# EAGLE library part 00SPEEDY_EE25/13/11_THT_V_8PIN (library Wurth Electronics Midcom Inc V1-0)
Package Style: Speedy EE25/13/11 Mounting: THT Pins: 8 pins Bobbin: 070-5080 Best pinouts for production vary per application. Please contact Wurth Electronics Midcom, Inc. for assistance with your custom design. Website: Wurth Electronics Midcom <http://www.we-online.com/midcom> Contact us Wurth Electronics Midcom, Inc. 121 Airport Dr. Watertown, SD 57201 Phone: (605) 886-4385 Fax: (605) 886-4486 E-Mail: midcom@we-online.com
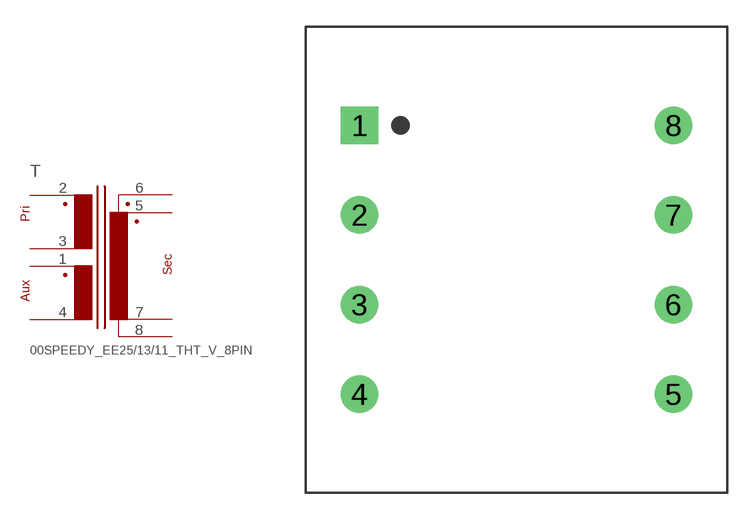
[diagram p109: symbol with the pads of 00SPEEDY_EE25/13/11_THT_V_8PIN; footprint 00SPEEDY_EE25/13/11_THT_V_8PIN]

Designator prefix T

## 00SPEEDY_EE25/13/11_THT_V_8PIN  [00SPEEDY_EE25/13/11_THT_V_8PIN]
1  3  pas
2  1  pas
3  2  pas
4  4  pas
5  7  pas
6  5  pas
7  8  pas
8  6  pas

## Footprint 00SPEEDY_EE25/13/11_THT_V_8PIN (pad centres in mm)
Package Style: Speedy EE25/13/11 Mounting: THT Pins: 8 pins Bobbin: 070-5080
drill 1.397 square: 1 -8.75,7.506
drill 1.397 round: 2 -8.75,2.502; 3 -8.75,-2.502; 4 -8.75,-7.506; 5 8.75,-7.506; 6 8.75,-2.502; 7 8.75,2.502; 8 8.75,7.506